# EAGLE library part MRF24J40MAB (library ipas)
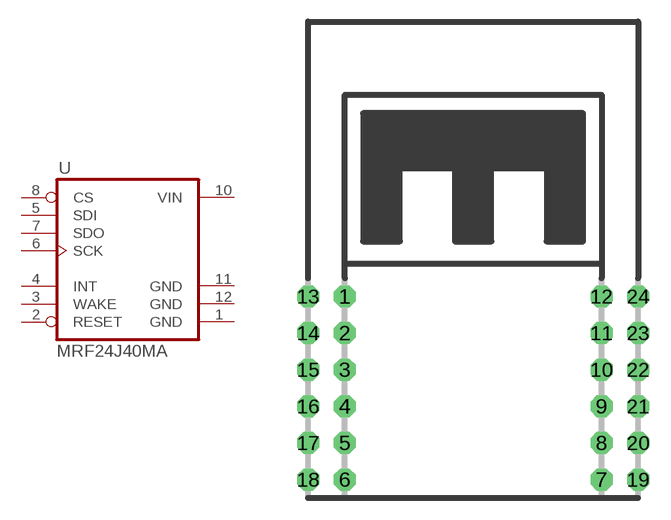
[diagram p22: symbol with the pads of MRF24J40MAB-TH; footprint MRF24J40MAB-TH]

Designator prefix -

## MRF24J40MAB  [MRF24J40MAB-TH]
1  GND  pwr
2  RESET  in
3  WAKE  in
4  INT  out
5  SDI  in
6  SCK  in
7  SDO  out
8  CS  in
10  VIN  pwr
11  GND  pwr
12  GND  pwr

## Footprint MRF24J40MAB-TH (pad centres in mm)
MRF24J40MA/B (thru-hole) Microchip 2.4 GHz IEEE Std. 802.15.4 RF Transceiver Module, through-hole design. This package supports both MRF24J40MA and MRF24J40MB layouts.
drill 1.016 octagon: 1 -8.89,5.08; 2 -8.89,2.54; 3 -8.89,0; 4 -8.89,-2.54; 5 -8.89,-5.08; 6 -8.89,-7.62; 7 8.89,-7.62; 8 8.89,-5.08; 9 8.89,-2.54; 10 8.89,0; 11 8.89,2.54; 12 8.89,5.08; 13 -11.43,5.08; 14 -11.43,2.54; 15 -11.43,0; 16 -11.43,-2.54; 17 -11.43,-5.08; 18 -11.43,-7.62; 19 11.43,-7.62; 20 11.43,-5.08; 21 11.43,-2.54; 22 11.43,0; 23 11.43,2.54; 24 11.43,5.08